# EAGLE library part ZXTD4591E6 (library cyclops)
NPN/PNP Gate Driver
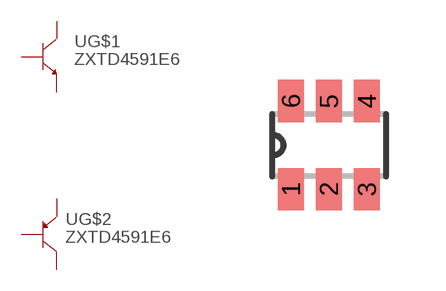
[diagram p10: symbol with the pads of SOT23-6; footprint SOT23-6]

Designator prefix -; gates G$1=NPN G$2=PNP

## ZXTD4591E6  [SOT23-6]
1  G$1:C
2  G$1:B  in
3  G$2:C
4  G$2:E
5  G$2:B  in
6  G$1:E

## Footprint SOT23-6 (pad centres in mm)
Small Outline Transistor 6 lead
smd 0.65 x 1.06: 1 -0.95,-1.1; 2 0,-1.1; 3 0.95,-1.1; 4 0.95,1.1; 5 0,1.1; 6 -0.95,1.1